# Altium schematic symbol library AP64502QSP-13.SchLib: 1 symbol
Pins are listed as number, name and electrical type; pins without a type are passive.

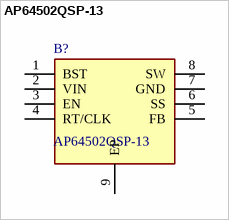
[diagram p0: symbol AP64502QSP-13]

## AP64502QSP-13
designator B?
Switching Voltage Regulators DCDC Conv HV Buck SO-8EP T&R 4K; Manufacturer_Name: Diodes Incorporated; Geometry.Height: 1.63mm; Mouser Part Number: 621-AP64502QSP-13; Mouser Price/Stock: https://www.mouser.co.uk/ProductDetail/Diodes-Incorporated/AP64502QSP-13?qs=IS%252B4QmGtzzowUaGiBacWLA%3D%3D; Manufacturer_Part_Number: AP64502QSP-13; Datasheet Link: https://www.diodes.com/assets/Datasheets/AP64502Q.pdf
footprint SOIC127P600X163-9N
pins: 1 BST, 2 VIN, 3 EN, 4 RT/CLK, 5 FB, 6 SS, 7 GND, 8 SW, 9 EP